# Altium footprint library EPS.PcbLib: 23 footprints (part 1 of 2)
Each footprint in its own frame and in the unit in brackets; x right, y up, seen from the top. Pads: shape width x height; smd on the part's side, far side on the other; paste and mask are expansions set on the pad; w line width, h text height; cw(c..) or ccw(c..) is an arc to the next point about the centre after c.
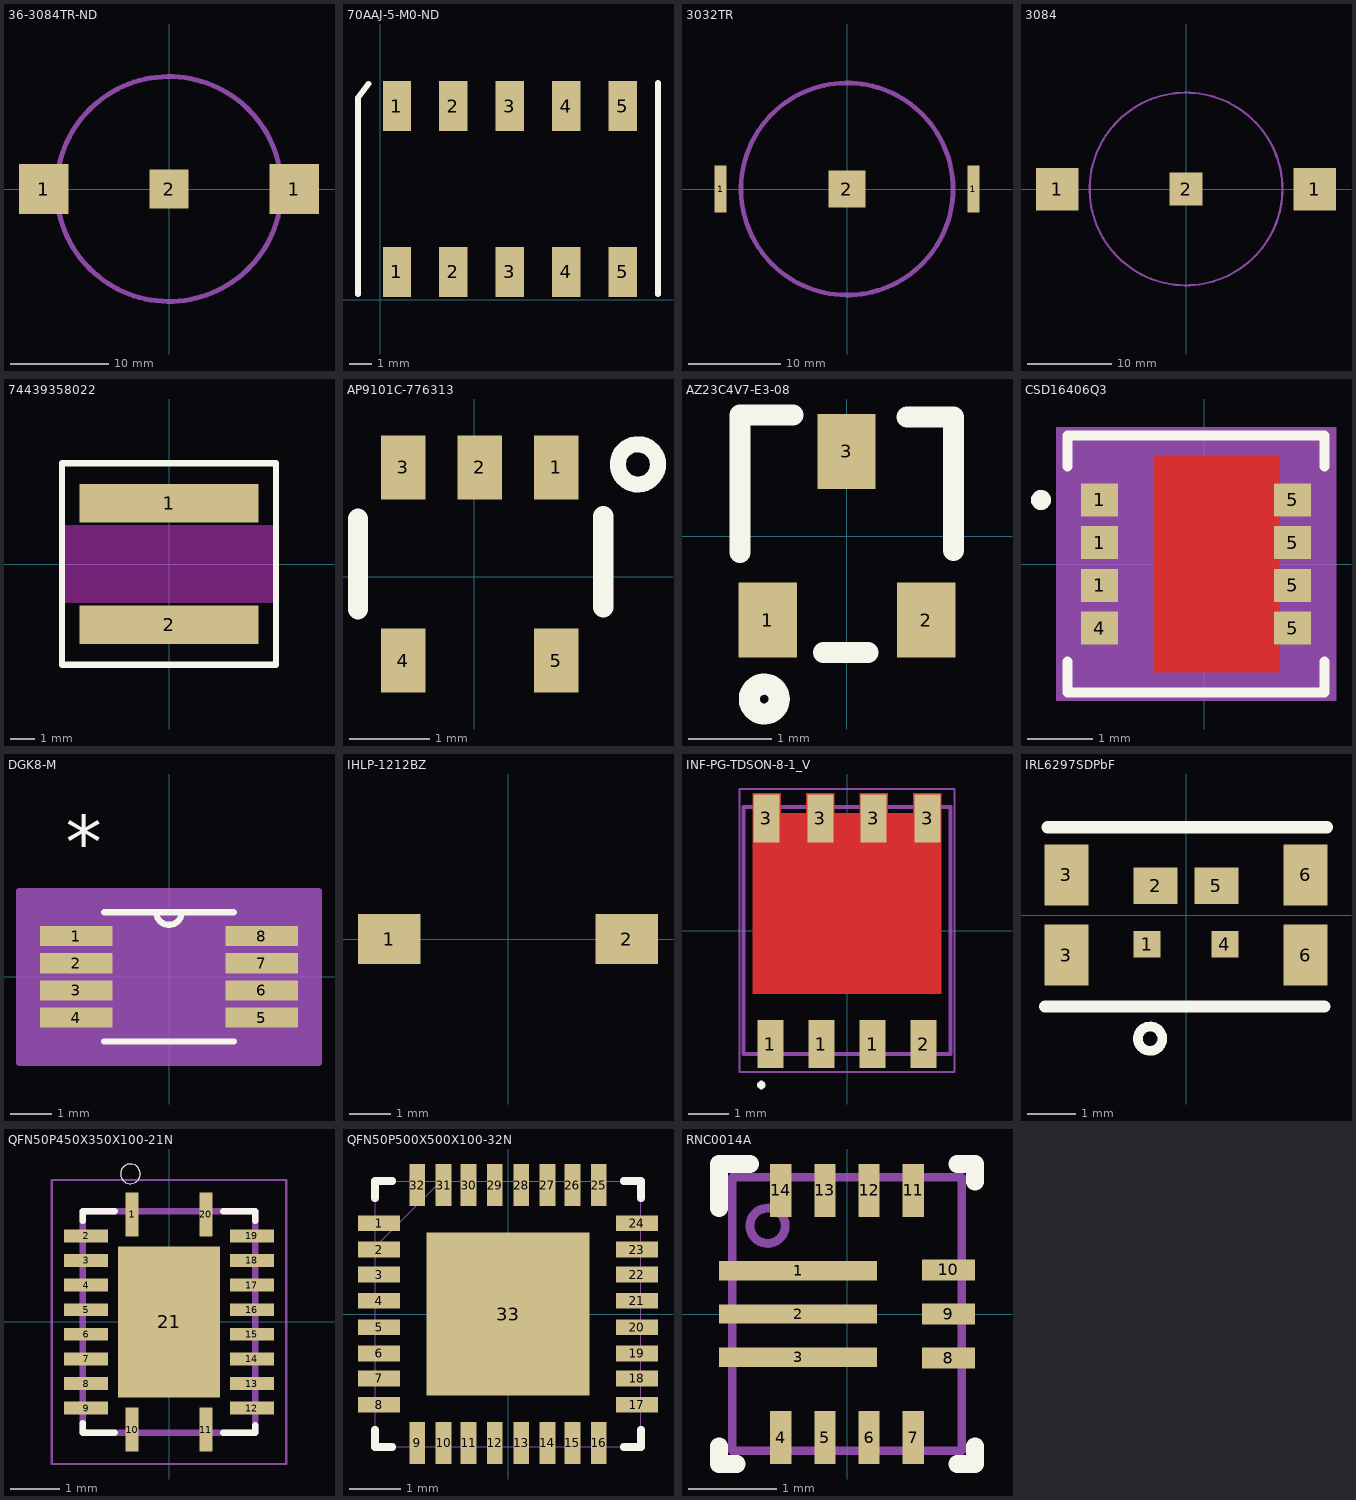
[diagram p0: the footprints below, top view; thin cyan lines are the x and y axes]

## 36-3084TR-ND [mm] "RTC Battery Holder"
height 3.96
pads (3):
  rect 5.08x5.08 smd: 1(-12.8,0) 1(12.8,0)
  rect 3.96x3.96 smd: 2(0,0)
Mechanical 1:
  circle w0.508: c0,0 r11.5
3D body "3084TR.STEP": height 3.96, standoff 0, extent -17.284,-11.976 16.726,9.152

## 70AAJ-5-M0-ND [mm]
height 5
pads (10):
  rect 1.27x2.26 smd: 1(0.75,1.25) 1(0.75,8.71) 2(3.29,1.25) 2(3.29,8.71) 3(5.83,1.25) 3(5.83,8.71) 4(8.37,1.25) 4(8.37,8.71) 5(10.91,1.25) 5(10.91,8.71)
Top Overlay:
  lines w0.254: -1,0.25 -1,7 -1,9.083 -0.53,9.71 ; 12.5,0.25 12.5,9.75
3D body "[butterfly] 70AAJ-5-M0-ND.step": height 4.06, standoff 0.1, extent -0.57,0.686 12.05,9.166

## 3032TR [mm]
height 2
pads (3):
  rect 1.3x5.1 smd: 1(-13.766,0) 1(13.664,0)
  rect 4x4 smd: 2(-0.051,0)
Mechanical 1:
  circle w0.508: c-0.051,0 r11.5
3D body "3084TR.STEP": height 3.96, standoff 0, extent -17.335,-11.976 16.675,9.152

## 3084 [mm] "CR2330 Battery Holder"
height 4
pads (3):
  rect 5.08x5.08 smd: 1(-15.365,-0.051) 1(15.365,-0.051)
  rect 3.96x3.96 smd: 2(0,0)
Mechanical 1:
  circle w0.254: c0,0 r11.5

## 74439358022 [mm]
height 8
pads (2):
  rect 7.35x1.6 smd: 1(0,2.5) 2(0,-2.5)
Top Layer keep-out:
  rectangle: -4.4,-1.6 4.4,1.6
Top Overlay:
  lines w0.254: -4.4,-4.15 -4.4,4.15 4.4,4.15 4.4,-4.15 -4.4,-4.15
3D body "74439358022.STEP": height 7.8, standoff 0, extent -4.4,-4.15 4.4,4.15

## AP9101C-776313 [mm] "High precision battery protection circuit"
height 1.15
pads (5):
  rect 0.55x0.8 smd: 1(1.016,1.359) 2(0.066,1.359) 3(-0.884,1.359) 4(-0.884,-1.041) 5(1.016,-1.041)
Top Overlay:
  circle w0.2: c2.032,1.397 r0.25
  lines w0.254: -1.448,-0.406 -1.448,0.724 ; 1.6,-0.381 1.6,0.754
3D body "SOT23_5.stp": height 0.92, standoff 0.01, extent -1.425,-1.45 1.575,1.755

## AZ23C4V7-E3-08 [mm] "300mW zener diode"
height 1.15
pads (3):
  rect 0.7x0.9 smd: 1(-0.947,-1.009) 2(0.953,-1.009) 3(-0.002,1.016)
Top Overlay:
  circle w0.254: c-0.991,-1.956 r0.18
  lines w0.254: -1.282,-0.197 -1.282,1.454 -0.647,1.454 ; -0.279,-1.397 0.254,-1.397 ; 0.724,1.429 1.283,1.429 1.283,-0.171
3D body "Package, SOT-23.STEP": height 1, standoff 0, extent -1.452,-1.3 1.448,1.3

## CSD16406Q3 [mm] "Power MOSFET"
height 1
pads (8):
  rect 0.56x0.5 smd paste-0.25: 1(-1.597,-0.325) 1(-1.597,0.325) 1(-1.597,0.975) 4(-1.597,-0.975) 5(1.343,-0.975) 5(1.343,-0.325) 5(1.343,0.325) 5(1.343,0.975)
Top Layer:
  region: -0.762,1.651 1.143,1.651 1.143,-1.651 -0.762,-1.651 -0.762,1.27
Top Overlay:
  circle w0.152: c-2.489,0.975 r0.076
  lines w0.152: -2.083,-1.486 -2.083,-1.956 1.829,-1.956 1.829,-1.486 ; -2.083,1.486 -2.083,1.956 1.829,1.956 1.829,1.486
Top Paste:
  region: 0.254,-1.524 0.254,-1.143 0.254,-0.635 1.016,-0.635 1.016,-1.524
  region: 0.254,0.635 0.254,1.524 1.016,1.524 1.016,0.635
  region: -0.635,0.635 -0.635,1.397 -0.635,1.524 0.127,1.524 0.127,0.635
  region: -0.635,-1.524 -0.635,-1.143 -0.635,-0.635 0.127,-0.635 0.127,-1.524
  region: 0.254,-0.508 0.254,0.508 1.016,0.508 1.016,-0.508
  region: -0.635,-0.508 -0.635,0 -0.635,0.508 0.127,0.508 0.127,-0.508
  region: 1.598,1.2 1.088,1.2 1.088,0.75 1.598,0.75
  region: 1.598,0.55 1.088,0.55 1.088,0.1 1.598,0.1
  region: 1.598,-0.1 1.088,-0.1 1.088,-0.55 1.598,-0.55
  region: 1.598,-0.75 1.088,-0.75 1.088,-1.2 1.598,-1.2
  region: -1.342,-0.75 -1.852,-0.75 -1.852,-1.2 -1.342,-1.2
  region: -1.342,-0.1 -1.852,-0.1 -1.852,-0.55 -1.342,-0.55
  region: -1.342,0.55 -1.852,0.55 -1.852,0.1 -1.342,0.1
  region: -1.342,1.2 -1.852,1.2 -1.852,0.75 -1.342,0.75
Top Solder:
  region: -0.838,-1.702 -0.838,1.702 0.229,1.702 1.194,1.702 1.194,-1.702 0.559,-1.702
  region: 1.693,1.295 0.993,1.295 0.993,0.655 1.693,0.655
  region: 1.693,0.645 0.993,0.645 0.993,0.005 1.693,0.005
  region: 1.693,-0.005 0.993,-0.005 0.993,-0.645 1.693,-0.645
  region: 1.693,-0.655 0.993,-0.655 0.993,-1.295 1.693,-1.295
  region: -1.247,-0.655 -1.947,-0.655 -1.947,-1.295 -1.247,-1.295
  region: -1.247,-0.005 -1.947,-0.005 -1.947,-0.645 -1.247,-0.645
  region: -1.247,0.645 -1.947,0.645 -1.947,0.005 -1.247,0.005
  region: -1.247,1.295 -1.947,1.295 -1.947,0.655 -1.247,0.655
Mechanical 5:
  region: 2.004,-2.083 -2.258,-2.083 -2.258,2.083 2.004,2.083
Mechanical 13:
  circle w0: c-2.489,0.975 r0.076
  lines w0: -0.432,1.702 ccw(c-0.127,1.702) 0.178,1.702
  lines w0.025: -1.829,-1.702 -1.829,1.702 1.575,1.702 1.575,-1.702 -1.829,-1.702
Mechanical 15:
  region: 1.877,-1.956 -2.131,-1.956 -2.131,1.956 1.877,1.956
  lines w0.152: -2.131,-1.956 1.877,-1.956 1.877,1.956 -2.131,1.956 -2.131,-1.956
3D body "DQG0008A.stp": height 1.1, standoff 0, extent -1.777,-1.65 1.523,1.65
3D body: height 0.25, standoff 0, extent -0.127,0 0.127,0.254

## DGK8-M [mil]
pads (8):
  rect 68x19 smd: 1(-87.5,38.39) 2(-87.5,12.8) 3(-87.5,-12.8) 4(-87.5,-38.39) 5(87.5,-38.39) 6(87.5,-12.8) 7(87.5,12.8) 8(87.5,38.39)
Top Overlay:
  lines w6: -61,-61 61,-61 ; -61,61 61,61 ; -12,61 ccw(c0,61) 12,61
  text "*" at -97.5,102.39 h50
Mechanical 13:
  lines w0: -12,61 ccw(c0,61) 12,61
  lines w1: -99.5,-45.89 -61,-45.89 -61,-30.89 -99.5,-30.89 -99.5,-45.89 ; -99.5,-20.3 -61,-20.3 -61,-5.3 -99.5,-5.3 -99.5,-20.3 ; -99.5,5.3 -61,5.3 -61,20.3 -99.5,20.3 -99.5,5.3 ; -99.5,30.89 -61,30.89 -61,45.89 -99.5,45.89 -99.5,30.89 ; -61,-61 -61,61 61,61 61,-61 -61,-61 ; 61,-45.89 99.5,-45.89 99.5,-30.89 61,-30.89 61,-45.89 ; 61,-20.3 99.5,-20.3 99.5,-5.3 61,-5.3 61,-20.3 ; 61,5.3 99.5,5.3 99.5,20.3 61,20.3 61,5.3 ; 61,30.89 99.5,30.89 99.5,45.89 61,45.89 61,30.89
  text "*" at -97.5,102.39 h50
Mechanical 15:
  region: 141.5,-81 -141.5,-81 -141.5,81 141.5,81
  lines w6: -141.5,-81 141.5,-81 141.5,81 -141.5,81 -141.5,-81
3D body: height 10, standoff 0, extent 0,0 10,10

## fuk [mil]

## IHLP-1212BZ [mm]
pads (2):
  rect 1.5x1.2 smd: 1(-2.85,0) 2(2.85,0)

## INF-PG-TDSON-8-1_V [mm] "TDSON, 8-Leads, Body 6.15x5.15mm, Pitch 1.27mm"
height 1
pads (8):
  rect 0.65x1.2 smd: 1(-1.905,-2.825) 1(-0.635,-2.825) 1(0.635,-2.825) 2(1.905,-2.825) 3(-2.007,2.794) 3(-0.66,2.794) 3(0.66,2.794) 3(2.007,2.794)
Top Layer:
  region: -2.35,2.925 -2.35,-1.575 2.35,-1.575 2.35,2.925
  region: -2.35,2.925 -1.65,2.925 -1.65,3.425 -2.35,3.425
  region: 1.65,2.925 2.35,2.925 2.35,3.425 1.65,3.425
  region: -1.015,2.925 -0.315,2.925 -0.315,3.425 -1.015,3.425
  region: 0.315,2.925 1.015,2.925 1.015,3.425 0.315,3.425
Top Overlay:
  region: -2.234,-3.842 -2.234,-3.862 -2.218,-3.899 -2.19,-3.927 -2.153,-3.942 -2.134,-3.942 -2.114,-3.942 -2.077,-3.927 -2.049,-3.899 -2.034,-3.862 -2.034,-3.842 -2.034,-3.822 -2.049,-3.785 -2.077,-3.757 -2.114,-3.742 -2.134,-3.742 -2.153,-3.742 -2.19,-3.757 -2.218,-3.785 -2.234,-3.822
Mechanical 13:
  lines w0.1: -2.575,-3.075 -2.575,3.075 2.575,3.075 2.575,-3.075 -2.575,-3.075
Mechanical 15:
  lines w0.05: -2.675,-3.525 -2.675,3.525 2.675,3.525 2.675,-3.525 -2.675,-3.525
  lines w0.1: -0.5,0 0.5,0 ; 0,-0.5 0,0.5
3D body "INF-PG-TDSON-8-1-P.step": height 1, standoff 0, extent -2.545,-2.93 2.605,2.97

## IRL6297SDPbF [mm] "Dual N-Channel Power MOSFET for Charge and Discharge Switching"
height 0.7
pads (8):
  rect 0.55x0.55 smd: 1(-0.8,-0.6) 4(0.8,-0.6)
  rect 0.9x0.75 smd: 2(-0.625,0.6) 5(0.625,0.6)
  rect 0.9x1.25 smd: 3(-2.455,-0.825) 3(-2.455,0.825) 6(2.455,-0.825) 6(2.455,0.825)
Top Overlay:
  circle w0.2: c-0.737,-2.54 r0.25
  lines w0.254: -2.896,-1.88 2.845,-1.88 ; -2.845,1.805 2.896,1.805
3D body: height 0.7, standoff 0, extent -2.413,-1.778 2.489,1.778

## QFN50P450X350X100-21N [mm]
pads (21):
  rect 0.26x0.9 smd: 1(-0.75,2.185) 10(-0.75,-2.185) 11(0.75,-2.185) 20(0.75,2.185)
  rect 0.9x0.26 smd: 2(-1.685,1.75) 3(-1.685,1.25) 4(-1.685,0.75) 5(-1.685,0.25) 6(-1.685,-0.25) 7(-1.685,-0.75) 8(-1.685,-1.25) 9(-1.685,-1.75) 12(1.685,-1.75) 13(1.685,-1.25) 14(1.685,-0.75) 15(1.685,-0.25) 16(1.685,0.25) 17(1.685,0.75) 18(1.685,1.25) 19(1.685,1.75)
  rect 2.07x3.07 smd: 21(0,0)
Top Overlay:
  circle w0: c-0.785,3.01 r0.2
  lines w0.127: -1.75,-2.05 -1.75,-2.25 -1.1,-2.25 ; -1.75,2.05 -1.75,2.25 -1.1,2.25 ; 1.1,-2.25 1.75,-2.25 1.75,-2.1 ; 1.1,2.25 1.75,2.25 1.75,2.05
Top Paste:
  region: -0.672,0.767 0.517,0.767 0.517,-0.997 -0.672,-0.997
Mechanical 1:
  circle w0: c-0.785,3.01 r0.2
  lines w0.05: -2.385,-2.885 -2.385,2.885 2.385,2.885 2.385,-2.885 -2.385,-2.885
  lines w0.127: -1.75,-2.25 -1.75,2.25 1.75,2.25 1.75,-2.25 -1.75,-2.25

## QFN50P500X500X100-32N [mil]
pads (33):
  rect 32x12 smd: 1(-98,69) 2(-98,49) 3(-98,30) 4(-98,10) 5(-98,-10) 6(-98,-30) 7(-98,-49) 8(-98,-69) 17(98,-69) 18(98,-49) 19(98,-30) 20(98,-10) 21(98,10) 22(98,30) 23(98,49) 24(98,69)
  rect 12x32 smd: 9(-69,-98) 10(-49,-98) 11(-30,-98) 12(-10,-98) 13(10,-98) 14(30,-98) 15(49,-98) 16(69,-98) 25(69,98) 26(49,98) 27(30,98) 28(10,98) 29(-10,98) 30(-30,98) 31(-49,98) 32(-69,98)
  rect 124x124 smd: 33(0,0)
Top Overlay:
  lines w6: -101,-88 -101,-101 -88,-101 ; -101,88 -101,101 -88,101 ; 88,-101 101,-101 101,-88 ; 88,101 101,101 101,88
Mechanical 1:
  lines w0: -101,-75 -101,-63 ; -101,-55 -101,-43 ; -101,-35 -101,-24 ; -101,-16 -101,-4 ; -101,4 -101,16 ; -101,24 -101,35 ; -101,43 -101,55 ; -101,51 -51,101 ; -101,63 -101,75 ; -75,-101 -63,-101 ; -75,101 -63,101 ; -55,-101 -43,-101 ; -55,101 -43,101 ; -35,-101 -24,-101 ; -35,101 -24,101 ; -16,-101 -4,-101 ; -16,101 -4,101 ; 4,-101 16,-101 ; 4,101 16,101 ; 24,-101 35,-101 ; 24,101 35,101 ; 43,-101 55,-101 ; 43,101 55,101 ; 63,-101 75,-101 ; 63,101 75,101 ; 101,-75 101,-63 ; 101,-55 101,-43 ; 101,-35 101,-24 ; 101,-16 101,-4 ; 101,4 101,16 ; 101,24 101,35 ; 101,43 101,55 ; 101,63 101,75 ; -101,-101 101,-101 101,101 -101,101 -101,-101

## RNC0014A [mm]
pads (14):
  rect 1.79x0.22 smd paste-0.882 mask+0.051: 1(-0.555,0.49) 2(-0.555,0) 3(-0.555,-0.49)
  rect 0.24x0.6 smd paste+0 mask+0.051: 4(-0.75,-1.4) 5(-0.25,-1.4) 6(0.25,-1.4) 7(0.75,-1.4) 11(0.75,1.4) 12(0.25,1.4) 13(-0.25,1.4) 14(-0.75,1.4)
  rect 0.6x0.24 smd paste+0 mask+0.051: 8(1.15,-0.5) 9(1.15,0) 10(1.15,0.5)
Top Overlay:
  lines w0.2: -1.45,-1.5 -1.45,-1.7 -1.25,-1.7 ; -1.45,1.2 -1.45,1.7 -1.1,1.7 ; 1.25,-1.7 1.45,-1.7 1.45,-1.5 ; 1.25,1.7 1.45,1.7 1.45,1.5
Top Paste:
  drawing of 6 lines, arcs and shapes, not listed
Mechanical 13:
  circle w0.1: c-0.9,1 r0.2
  lines w0.1: -1.3,-1.55 -1.3,1.55 1.3,1.55 1.3,-1.55 -1.3,-1.55
3D body: height 0.25, standoff 0, extent 0,0 0.254,0.254
3D body "RNC0014A.step": height 1, standoff 0, extent -1.3,-1.55 1.3,1.55